# Altium schematic symbol library SCH - DAC - NCV8730ASNADJT1G.SCHLIB: 1 symbol
Pins are listed as number, name and electrical type; pins without a type are passive.

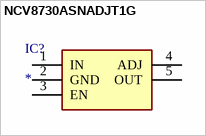
[diagram p0: symbol NCV8730ASNADJT1G]

## NCV8730ASNADJT1G
designator IC?
Integrated Circuit; Manufacturer_Name: ON Semiconductor; Manufacturer_Part_Number: NCV8730ASNADJT1G; Datasheet Link: https://www.arrow.com/en/products/ncv8730asnadjt1g/on-semiconductor; Height: 1.1mm
footprint SOT95P275X110-5N
pins: 1 IN, 2 GND, 3 EN, 4 ADJ, 5 OUT